# Altium schematic symbol library IND_4.7uF_5.5A_40ohm.SchLib: 1 symbol
Pins are listed as number, name and electrical type; pins without a type are passive.

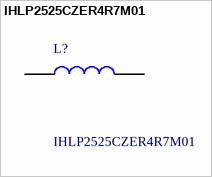
[diagram p0: symbol IHLP2525CZER4R7M01]

## IHLP2525CZER4R7M01
designator L?
Inductor IHLP SMD 2525 4.7uH Vishay IHLP2525CZ-01 Series Shielded Wire-wound SMD Inductor 4.7 uH +/-20% 5.5A Idc; Geometry.Height: 3mm; Manufacturer_Name: Vishay; Manufacturer_Part_Number: IHLP2525CZER4R7M01; Mouser Part Number: 70-IHLP2525CZER4R7M1; Mouser Price/Stock: https://www.mouser.co.uk/ProductDetail/Vishay-Dale/IHLP2525CZER4R7M01?qs=delkvkPykKkoRC4%2FTC3qyQ%3D%3D; Arrow Part Number: IHLP2525CZER4R7M01; Arrow Price/Stock: https://www.arrow.com/en/products/ihlp2525czer4r7m01/vishay?region=europe; Datasheet Link: https://componentsearchengine.com/Datasheets/2/IHLP2525CZER4R7M01.pdf
footprint INDM6965X300N
pins: 1, 2